# EAGLE library part BSC050NE2LSATMA1 (library Engs125_lib_UPDATEFeb22)
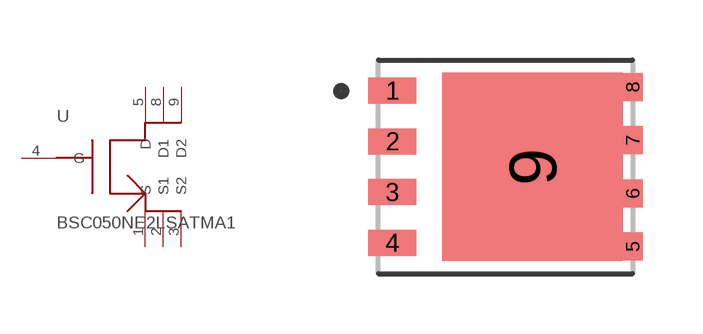
[diagram p2: symbol with the pads of PG-TDSON-8; footprint PG-TDSON-8]

Designator prefix -

## BSC050NE2LSATMA1  [PG-TDSON-8]
1  S
2  S1
3  S2
4  G
5  D
8  D1
9  D2

## Footprint PG-TDSON-8 (pad centres in mm)
smd 1.2 x 0.65: 1 -2.825,1.905; 2 -2.825,0.635; 3 -2.825,-0.635; 4 -2.825,-1.905
smd 0.5 x 0.7: 5 3.175,-1.995; 6 3.175,-0.665; 7 3.175,0.665; 8 3.175,1.995
smd 4.5 x 4.7: 9 0.675,0